# EAGLE library part RJ111BE (library dragino)
RJ45 connector with transformer
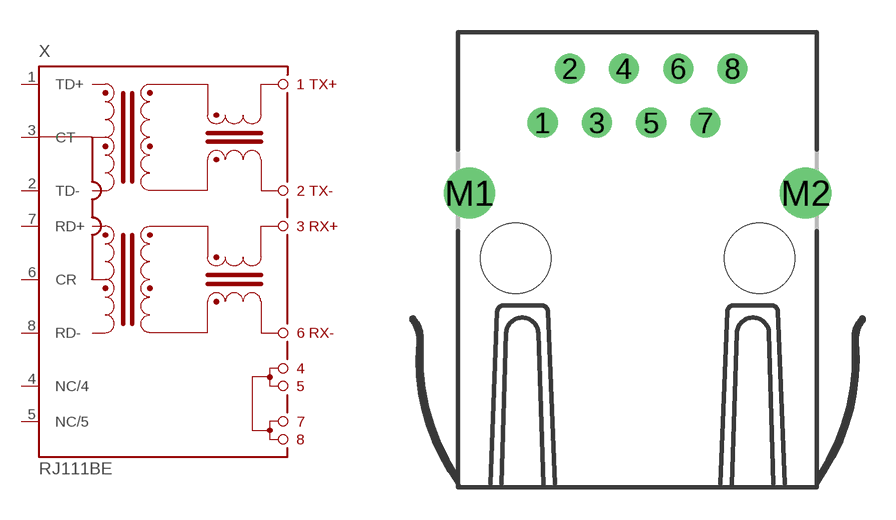
[diagram p12: symbol with the pads of RJ111BE; footprint RJ111BE]

Designator prefix X

## RJ111BE (OC_FARNELL: unknown; OC_NEWARK: unknown)  [RJ111BE]
1  TD+  in
2  TD-  in
3  CT  in
4  NC/4  in
5  NC/5  in
6  CR  in
7  RD+  in
8  RD-  in

## Footprint RJ111BE (pad centres in mm)
Shileded RJ45 Connector with transformer
drill 0.9 pad 1.3: 1 -4.445,0; 2 -3.175,2.54; 3 -1.905,0; 4 -0.635,2.54; 5 0.635,0; 6 1.905,2.54; 7 3.175,0; 8 4.445,2.54
drill 1.6 pad 2.184: M1 -7.875,-3.3; M2 7.875,-3.3
hole 3.3 at 5.715,-6.35
hole 3.3 at -5.715,-6.35